# EAGLE library part J3 (library pcb_library)
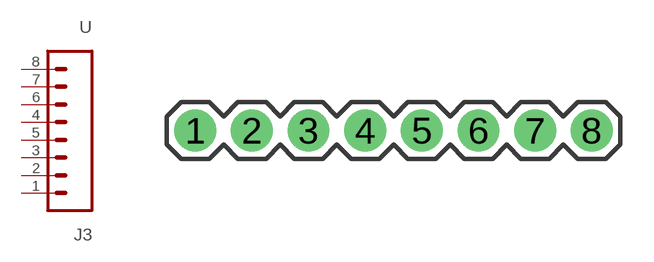
[diagram p12: symbol with the pads of J3; footprint J3]

Designator prefix -

## J3  [J3]
1  1.GND  pas
2  2.3V3  pas
3  3.A4/LED  pas
4  4.B4/USER  pas
5  5  pas
6  5.B3  pas
7  7.A1  pas
8  8.A0  pas

## Footprint J3 (pad centres in mm)
drill 1.016 pad 1.88: 1 0,0; 2 2.54,0; 3 5.08,0; 4 7.62,0; 5 10.16,0; 6 12.7,0; 7 15.24,0; 8 17.78,0